# Altium footprint library SSQ-103-03-T-S.PcbLib: 1 footprints
Each footprint in its own frame and in the unit in brackets; x right, y up, seen from the top. Pads: shape width x height; smd on the part's side, far side on the other; paste and mask are expansions set on the pad; w line width, h text height; cw(c..) or ccw(c..) is an arc to the next point about the centre after c.
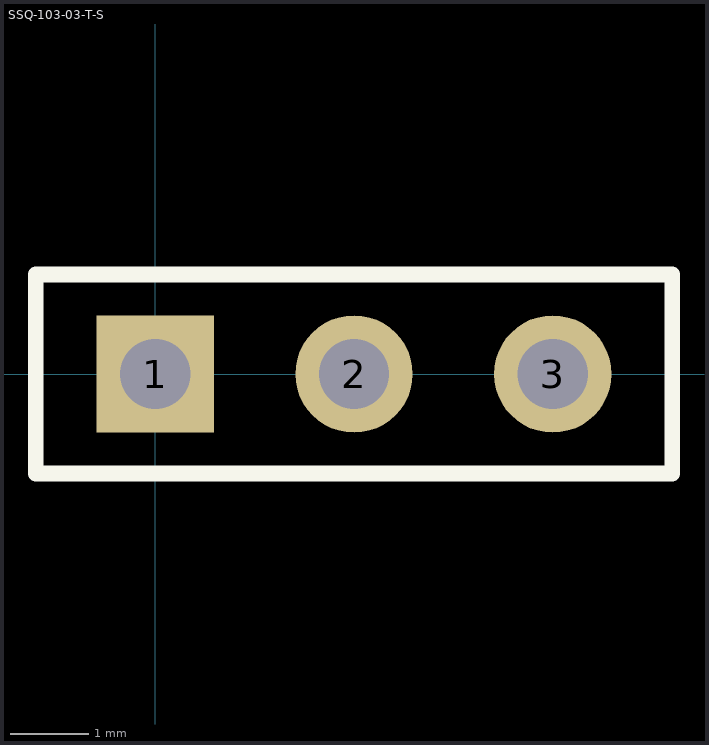
[diagram p0: the footprint, top view; thin cyan lines are the x and y axes]

## SSQ-103-03-T-S [mm] "Connector; Header; 3 Position"
pads (3):
  rect 1.5x1.5 hole 0.9: 1(0,0)
  round 1.5 hole 0.9: 2(2.54,0) 3(5.08,0)
Top Overlay:
  lines w0.2: -1.524,-1.27 6.604,-1.27 6.604,1.27 -1.524,1.27 -1.524,-1.27
3D body "SSQ-103-03-T-S.stp": height 8.51, standoff -10.01, extent -1.524,-1.206 6.604,1.207